# Altium schematic symbol library ArduinoMega.SchLib: 2 symbols
Pins are listed as number, name and electrical type; pins without a type are passive.

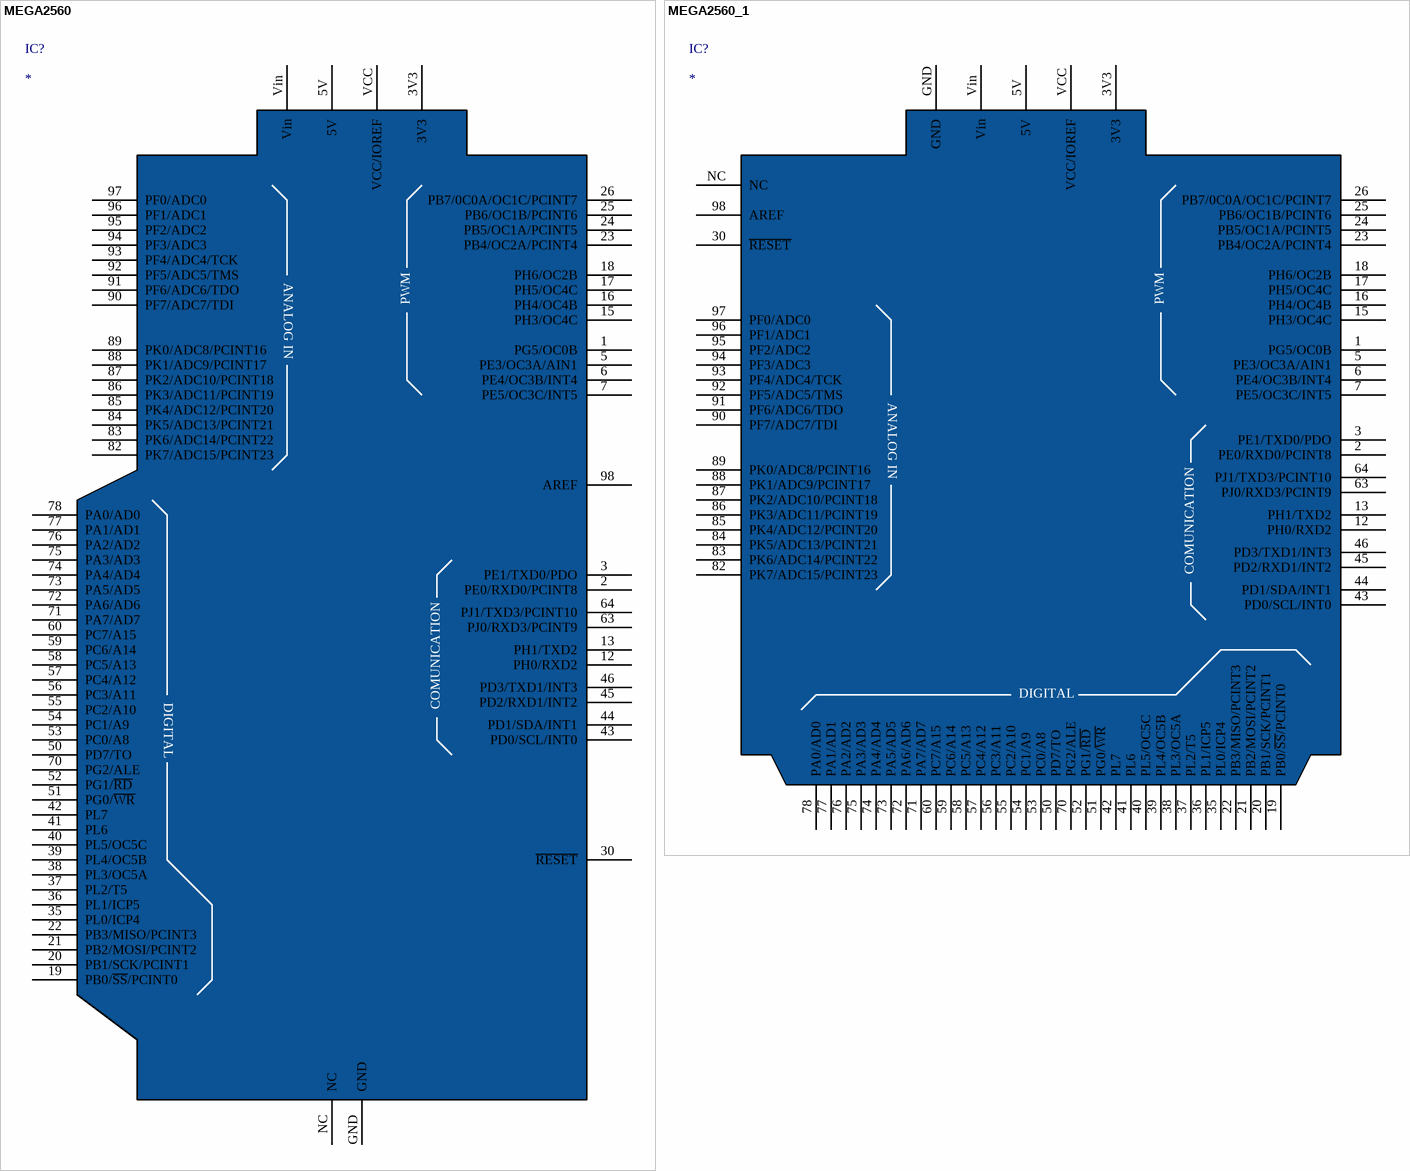
[diagram p0: symbols MEGA2560 to MEGA2560_1]

## MEGA2560
designator IC?
Arduino mega 2560; Manufacturer_Name: Infineon; Manufacturer_Part_Number: S2GOPRESSUREDPS310TOBO1; Datasheet Link: https://www.mouser.com/datasheet/2/196/Infineon-S2Go_MyIoT_Fast_flexible_and_easy_prototy-1381114.pdf; Arrow Part Number: S2GOPRESSUREDPS310TOBO1; Arrow Price/Stock: https://www.arrow.com/en/products/s2gopressuredps310tobo1/infineon-technologies-ag; Mouser Part Number: 726-S2GOPRESSUREDPS3; Mouser Price/Stock: https://www.mouser.co.uk/ProductDetail/Infineon-Technologies/S2GOPRESSUREDPS310TOBO1?qs=W0yvOO0ixfGu9VAUdbcSBQ%3D%3D
footprint arduino mega 2560
pins: 1 PG5/OC0B, 2 PE0/RXD0/PCINT8, 3 PE1/TXD0/PDO, 3V3, 5 PE3/OC3A/AIN1, 5V, 6 PE4/OC3B/INT4, 7 PE5/OC3C/INT5, 12 PH0/RXD2, 13 PH1/TXD2, 15 PH3/OC4C, 16 PH4/OC4B, 17 PH5/OC4C, 18 PH6/OC2B, 19 PB0/~{SS}/PCINT0, 20 PB1/SCK/PCINT1, 21 PB2/MOSI/PCINT2, 22 PB3/MISO/PCINT3, 23 PB4/OC2A/PCINT4, 24 PB5/OC1A/PCINT5, 25 PB6/OC1B/PCINT6, 26 PB7/0C0A/OC1C/PCINT7, 30 ~{RESET}, 35 PL0/ICP4, 36 PL1/ICP5, 37 PL2/T5, 38 PL3/OC5A, 39 PL4/OC5B, 40 PL5/OC5C, 41 PL6, 42 PL7, 43 PD0/SCL/INT0, 44 PD1/SDA/INT1, 45 PD2/RXD1/INT2, 46 PD3/TXD1/INT3, 50 PD7/TO, 51 PG0/~{WR}, 52 PG1/~{RD}, 53 PC0/A8, 54 PC1/A9, 55 PC2/A10, 56 PC3/A11, 57 PC4/A12, 58 PC5/A13, 59 PC6/A14, 60 PC7/A15, 63 PJ0/RXD3/PCINT9, 64 PJ1/TXD3/PCINT10, 70 PG2/ALE, 71 PA7/AD7, 72 PA6/AD6, 73 PA5/AD5, 74 PA4/AD4, 75 PA3/AD3, 76 PA2/AD2, 77 PA1/AD1, 78 PA0/AD0, 82 PK7/ADC15/PCINT23, 83 PK6/ADC14/PCINT22, 84 PK5/ADC13/PCINT21, 85 PK4/ADC12/PCINT20, 86 PK3/ADC11/PCINT19, 87 PK2/ADC10/PCINT18, 88 PK1/ADC9/PCINT17, 89 PK0/ADC8/PCINT16, 90 PF7/ADC7/TDI, 91 PF6/ADC6/TDO, 92 PF5/ADC5/TMS, 93 PF4/ADC4/TCK, 94 PF3/ADC3, 95 PF2/ADC2, 96 PF1/ADC1, 97 PF0/ADC0, 98 AREF, GND, NC, VCC VCC/IOREF, Vin
text: ANALOG IN; PWM; DIGITAL; COMUNICATION

## MEGA2560_1
designator IC?
Arduino mega 2560; Manufacturer_Name: Infineon; Manufacturer_Part_Number: S2GOPRESSUREDPS310TOBO1; Datasheet Link: https://www.mouser.com/datasheet/2/196/Infineon-S2Go_MyIoT_Fast_flexible_and_easy_prototy-1381114.pdf; Arrow Part Number: S2GOPRESSUREDPS310TOBO1; Arrow Price/Stock: https://www.arrow.com/en/products/s2gopressuredps310tobo1/infineon-technologies-ag; Mouser Part Number: 726-S2GOPRESSUREDPS3; Mouser Price/Stock: https://www.mouser.co.uk/ProductDetail/Infineon-Technologies/S2GOPRESSUREDPS310TOBO1?qs=W0yvOO0ixfGu9VAUdbcSBQ%3D%3D
footprint arduino mega 2560
pins: 1 PG5/OC0B, 2 PE0/RXD0/PCINT8, 3 PE1/TXD0/PDO, 3V3, 5 PE3/OC3A/AIN1, 5V, 6 PE4/OC3B/INT4, 7 PE5/OC3C/INT5, 12 PH0/RXD2, 13 PH1/TXD2, 15 PH3/OC4C, 16 PH4/OC4B, 17 PH5/OC4C, 18 PH6/OC2B, 19 PB0/~{SS}/PCINT0, 20 PB1/SCK/PCINT1, 21 PB2/MOSI/PCINT2, 22 PB3/MISO/PCINT3, 23 PB4/OC2A/PCINT4, 24 PB5/OC1A/PCINT5, 25 PB6/OC1B/PCINT6, 26 PB7/0C0A/OC1C/PCINT7, 30 ~{RESET}, 35 PL0/ICP4, 36 PL1/ICP5, 37 PL2/T5, 38 PL3/OC5A, 39 PL4/OC5B, 40 PL5/OC5C, 41 PL6, 42 PL7, 43 PD0/SCL/INT0, 44 PD1/SDA/INT1, 45 PD2/RXD1/INT2, 46 PD3/TXD1/INT3, 50 PD7/TO, 51 PG0/~{WR}, 52 PG1/~{RD}, 53 PC0/A8, 54 PC1/A9, 55 PC2/A10, 56 PC3/A11, 57 PC4/A12, 58 PC5/A13, 59 PC6/A14, 60 PC7/A15, 63 PJ0/RXD3/PCINT9, 64 PJ1/TXD3/PCINT10, 70 PG2/ALE, 71 PA7/AD7, 72 PA6/AD6, 73 PA5/AD5, 74 PA4/AD4, 75 PA3/AD3, 76 PA2/AD2, 77 PA1/AD1, 78 PA0/AD0, 82 PK7/ADC15/PCINT23, 83 PK6/ADC14/PCINT22, 84 PK5/ADC13/PCINT21, 85 PK4/ADC12/PCINT20, 86 PK3/ADC11/PCINT19, 87 PK2/ADC10/PCINT18, 88 PK1/ADC9/PCINT17, 89 PK0/ADC8/PCINT16, 90 PF7/ADC7/TDI, 91 PF6/ADC6/TDO, 92 PF5/ADC5/TMS, 93 PF4/ADC4/TCK, 94 PF3/ADC3, 95 PF2/ADC2, 96 PF1/ADC1, 97 PF0/ADC0, 98 AREF, GND, NC, VCC VCC/IOREF, Vin
text: PWM; ANALOG IN; COMUNICATION; DIGITAL